# Altium footprint library SHTxx.PcbLib: 1 footprints
Each footprint in its own frame and in the unit in brackets; x right, y up, seen from the top. Pads: shape width x height; smd on the part's side, far side on the other; paste and mask are expansions set on the pad; w line width, h text height; cw(c..) or ccw(c..) is an arc to the next point about the centre after c.
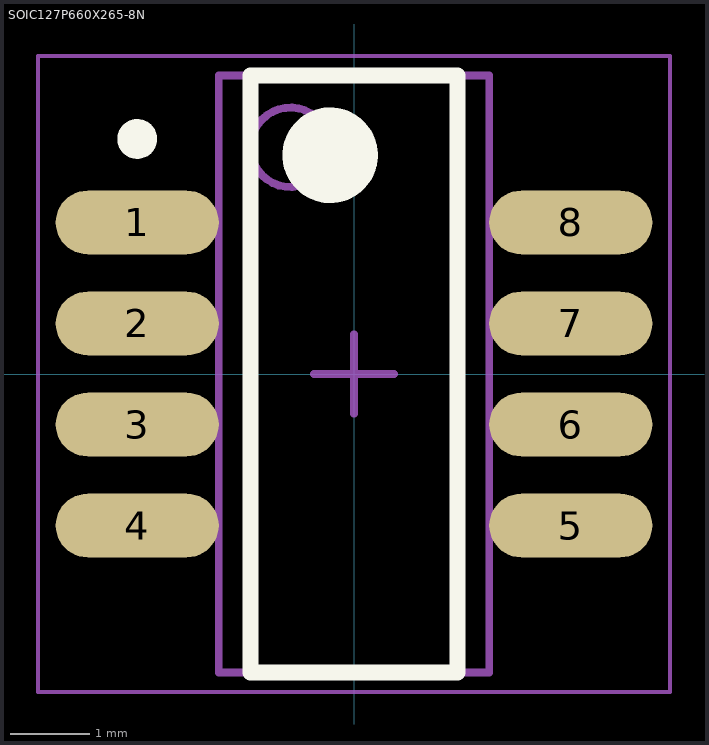
[diagram p0: the footprint, top view; thin cyan lines are the x and y axes]

## SOIC127P660X265-8N [mm] "SOIC, 8-Leads, Body 7,47x3,40mm, Pitch 1,27mm, IPC Medium Density"
height 2.65
pads (8):
  oval 2.05x0.8 smd: 1(-2.725,1.905) 2(-2.725,0.635) 3(-2.725,-0.635) 4(-2.725,-1.905) 5(2.725,-1.905) 6(2.725,-0.635) 7(2.725,0.635) 8(2.725,1.905)
Top Overlay:
  circle w0.6: c-0.3,2.75 r0.3
  circle w0.25: c-2.725,2.955 r0.125
  lines w0.2: -1.3,-3.75 1.3,-3.75 1.3,3.75 -1.3,3.75 -1.3,-3.75
Mechanical 13:
  circle w0.1: c-0.8,2.85 r0.5
  lines w0.1: -1.7,-3.75 1.7,-3.75 1.7,3.75 -1.7,3.75 -1.7,-3.75
Mechanical 15:
  lines w0.05: -3.975,-4 3.975,-4 3.975,4 -3.975,4 -3.975,-4
  lines w0.1: -0.5,0 0.5,0 ; 0,-0.5 0,0.5
3D body: height 2.35, standoff -0.01, extent -2.465,-3.683 2.465,3.787